# Altium footprint library Backlight.PcbLib: 3 footprints
Each footprint in its own frame and in the unit in brackets; x right, y up, seen from the top. Pads: shape width x height; smd on the part's side, far side on the other; paste and mask are expansions set on the pad; w line width, h text height; cw(c..) or ccw(c..) is an arc to the next point about the centre after c.
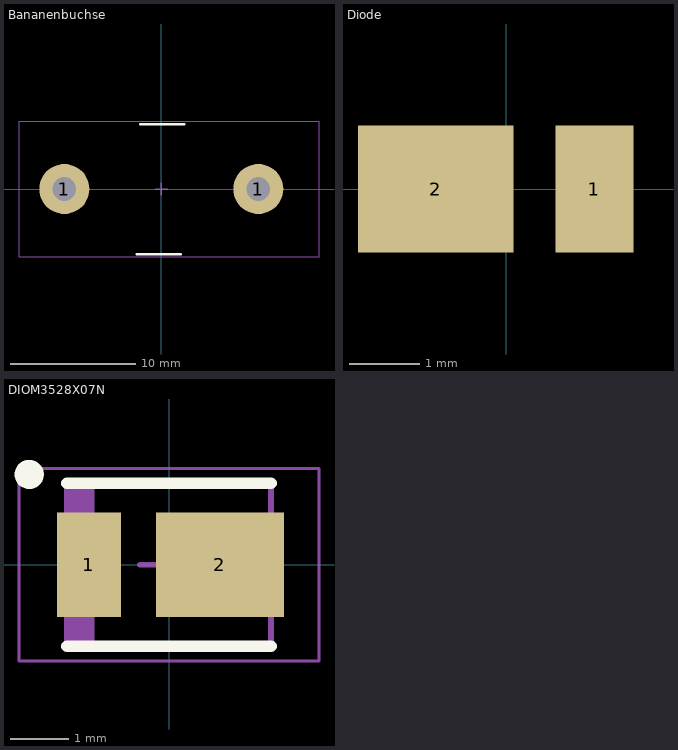
[diagram p0: the footprints below, top view; thin cyan lines are the x and y axes]

## Bananenbuchse [mm]
height 12.6
pads (2):
  round 4 hole 1.9: 1(-7.75,0) 1(7.75,0)
Top Overlay:
  lines w0.2: -1.95,-5.225 1.55,-5.225 ; -1.675,5.175 1.825,5.175
Mechanical 15:
  lines w0.05: -11.375,-5.4 -11.375,5.4 12.6,5.4 12.6,-5.4 -11.375,-5.4
  lines w0.1: -0.5,0 0.5,0 ; 0,-0.5 0,0.5
3D body: height 12.6, standoff 0, extent -11.4,-5.425 12.625,5.425

## Diode [mm]
pads (2):
  rect 1.1x1.8 smd: 1(1.25,0)
  rect 2.2x1.8 smd: 2(-1,0)

## DIOM3528X07N [mm] "Molded Diode, 2-Leads, Body 3.50x2.80mm, IPC Medium Density"
height 0.7
pads (2):
  rect 1.1x1.8 smd: 1(-1.375,0)
  rect 2.2x1.8 smd: 2(0.875,0)
Top Overlay:
  circle w0.25: c-2.4,1.55 r0.125
  lines w0.2: -1.75,-1.4 1.75,-1.4 ; -1.75,1.4 1.75,1.4
Mechanical 13:
  rectangle: -1.75,-1.4 -1.279,1.4
  lines w0.1: -1.75,-1.4 1.75,-1.4 1.75,1.4 -1.75,1.4 -1.75,-1.4
Mechanical 15:
  lines w0.05: -2.575,-1.65 2.575,-1.65 2.575,1.65 -2.575,1.65 -2.575,-1.65
  lines w0.1: -0.5,0 0.5,0 ; 0,-0.5 0,0.5
3D body "DIOM3528X07N.step": height 0.7, standoff 0, extent -1.97,-1.4 1.97,1.4